# Altium schematic symbol library 50YXJ10M5X111_50YXJ10M5X11.SCHLIB: 1 symbol
Pins are listed as number, name and electrical type; pins without a type are passive.

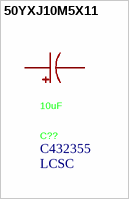
[diagram p0: symbol 50YXJ10M5X11]

## 50YXJ10M5X11
designator C??, comment 10uF  Supplier Part: C432355  Supplier: LCSC
Manufacturer: Rubycon(红宝石); Symbol: 50YXJ10M5X11; Add into BOM: yes; Tolerance: ±20%; Voltage Rating: 50V; Pin Spacing: 2mm; Lifetime: 5000hrs@105℃; Device: 50YXJ10M5X11; Value: 10uF; LCSC Part Name: 10uF ±20% 50V; Manufacturer Part: 50YXJ10M5X11; Supplier Footprint: 插件,D5xL11mm; JLCPCB Part Class: Extended Part; Datasheet: https://item.szlcsc.com/datasheet/50YXJ10M5X11/429163.html; Convert to PCB: yes; Diameter: 5mm; Height - Seated (Max): 11mm
footprint CAP-TH_BD5.0-P2.00-D0.8-FD
3D model CAP-TH_D5.0×H7.0×P2.0
pins: 1, 2